# EAGLE library part 7490100111 (library 7490100111)
Audio Transformers / Signal Transformers 10/100 Base-T SMT Transformer 1 Port Source: Datasheet <https://www.we-online.com/katalog/datasheet/7490100111.pdf>
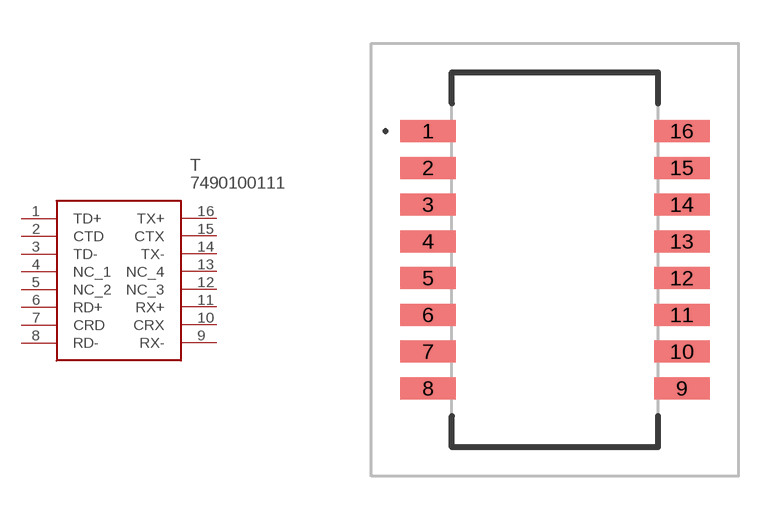
[diagram p0: symbol with the pads of 7490100111; footprint 7490100111]

Designator prefix T

## 7490100111 (Description: Audio Transformers / Signal Transformers 10/100 Base-T SMT Transformer 1 Port; Height: 5.33mm; Manufacturer_Name: Wurth Elektronik; Manufacturer_Part_Number: 7490100111; Mouser_Part_Number: 710-7490100111; Mouser_Price-Stock: https://www.mouser.co.uk/ProductDetail/Wurth-Elektronik/7490100111?qs=2sV1BwmkawTzYJbYKh1aHA%3D%3D)  [7490100111]
1  TD+
2  CTD
3  TD-
4  NC_1
5  NC_2
6  RD+
7  CRD
8  RD-
9  RX-
10  CRX
11  RX+
12  NC_3
13  NC_4
14  TX-
15  CTX
16  TX+

## Footprint 7490100111 (pad centres in mm)
7490100111-2
smd 1.91 x 0.76: 1 -4.38,4.445; 2 -4.38,3.175; 3 -4.38,1.905; 4 -4.38,0.635; 5 -4.38,-0.635; 6 -4.38,-1.905; 7 -4.38,-3.175; 8 -4.38,-4.445; 9 4.38,-4.445; 10 4.38,-3.175; 11 4.38,-1.905; 12 4.38,-0.635; 13 4.38,0.635; 14 4.38,1.905; 15 4.38,3.175; 16 4.38,4.445